# EAGLE library part FS8205A (library FS8205A)
dual n-channel enhancement mode power MOFSET Source: Datasheet <http://www.ic-fortune.com/upload/Download/FS8205A-DS-12_EN.pdf>
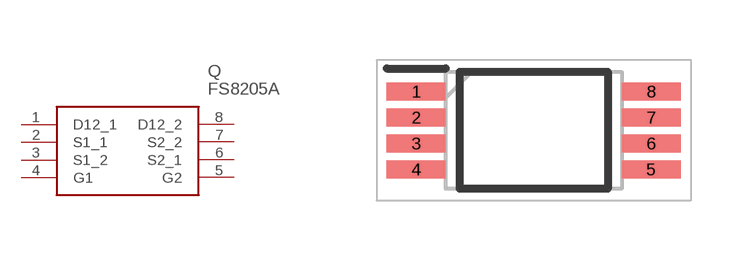
[diagram p0: symbol with the pads of SOP65P640X120-8N; footprint SOP65P640X120-8N]

Designator prefix Q

## FS8205A (Description: dual n-channel enhancement mode power MOFSET; Height: 1.2mm; Manufacturer_Name: SII Semiconductor; Manufacturer_Part_Number: FS8205A)  [SOP65P640X120-8N]
1  D12_1
2  S1_1
3  S1_2
4  G1
5  G2
6  S2_1
7  S2_2
8  D12_2

## Footprint SOP65P640X120-8N (pad centres in mm)
TSSOP-8
smd 1.475 x 0.45: 1 -2.938,0.975; 2 -2.938,0.325; 3 -2.938,-0.325; 4 -2.938,-0.975; 5 2.938,-0.975; 6 2.938,-0.325; 7 2.938,0.325; 8 2.938,0.975